# Altium schematic symbol library REX 9628 Extern Kernel 8.SCHLIB: 12 symbols
Pins are listed as number, name and electrical type; pins without a type are passive.

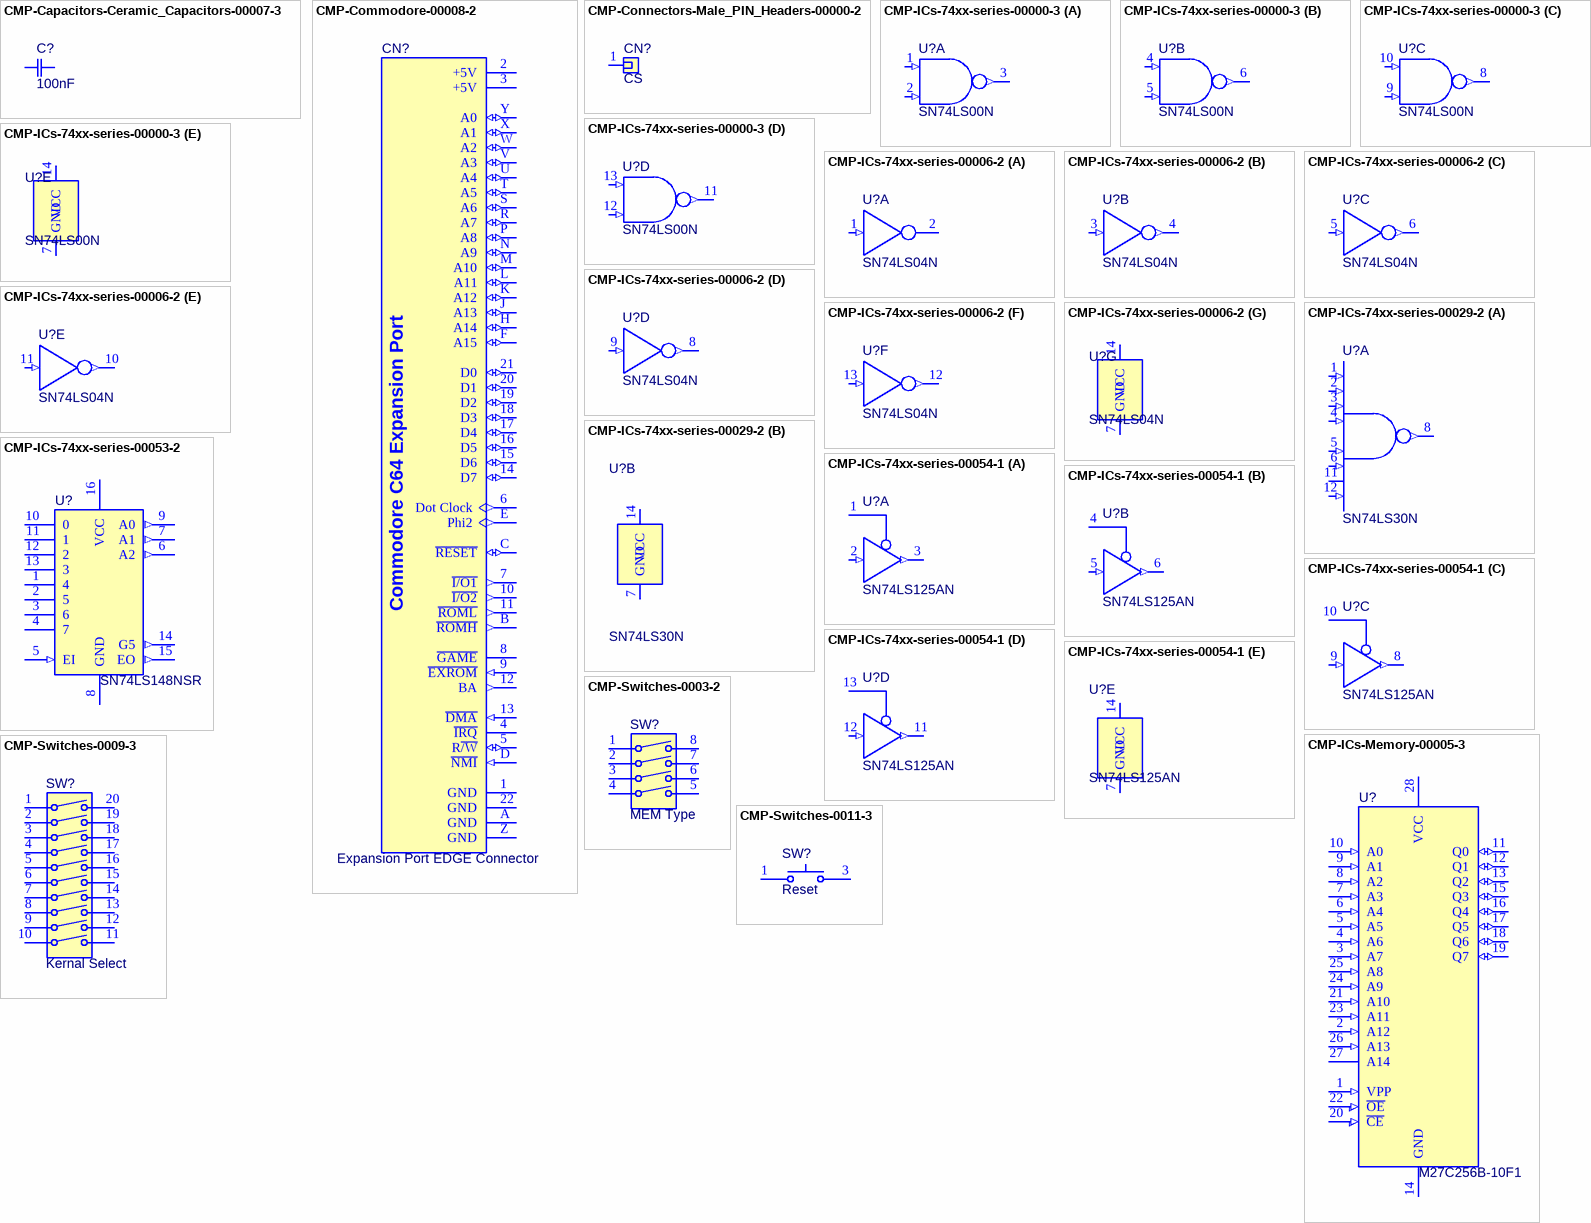
[diagram p0: symbols CMP-Capacitors-Ceramic_Capacitors-00007-3 to CMP-Switches-0011-3]

## CMP-Capacitors-Ceramic_Capacitors-00007-3
designator C?, comment 100nF
Ceramic Disc Capacitors 100nF -20%~+80% 50V Through Hole,P=2.54mm RoHS; ComponentLink1URL: https://lcsc.com/product-detail/Others_Dersonic-CC1H104ZA1PD3F5O3000_C353909.html; Component Type: Ceramic Capacitors
footprint CAP Disc 100nF P2.54mm D5.5mm T3mm
pins: 1, 2

## CMP-Commodore-00008-2
designator CN?, comment Expansion Port EDGE Connector
Expansion Port EDGE Connector for Interface Cards; Component Type: Commodore
footprint C64 Expansion Port EDGE Connector
pins: 1 GND, 2 +5V (power), 3 +5V (power), 4 ~{IRQ}, 5 R~{/W} (io), 6 Dot Clock (out), 7 ~{I/O1} (out), 8 ~{GAME}, 9 ~{EXROM} (in), 10 ~{I/O2} (out), 11 ~{ROML} (out), 12 BA (out), 13 ~{DMA} (in), 14 D7 (io), 15 D6 (io), 16 D5 (io), 17 D4 (io), 18 D3 (io), 19 D2 (io), 20 D1 (io), 21 D0 (io), 22 GND, A GND, B ~{ROMH} (out), C ~{RESET} (io), D ~{NMI} (in), E Phi2 (out), F A15 (io), H A14 (io), J A13 (io), K A12 (io), L A11 (io), M A10 (io), N A9 (io), P A8 (io), R A7 (io), S A6 (io), T A5 (io), U A4 (io), V A3 (io), W A2 (io), X A1 (io), Y A0 (io), Z GND (power)
text: Commodore C64 Expansion Port

## CMP-Connectors-Male_PIN_Headers-00000-2
designator CN?, comment CS
CONN HEADER .100 SNGL STR 1POS; Manufacturer: Sullins; Manufacturer Part Number: PRPC001SFAN-RC; Connector Type: Male Pin; Number of Positions: 1; Mount: Through Hole; Package Quantity: 1; Contact Mating Length: 0.318inch; Packaging: Bulk; Termination: Solder; Number of Rows: 1; Color: Black; Contact Plating: Gold; Component Type: Male PIN Headers
footprint Pin Header 01x01 2.54mm Horizontal Male
pins: 1

## CMP-ICs-74xx-series-00000-3
designator U?, comment SN74LS00N
IC, 74LS, 74LS00, DIP14, 5.25V; Manufacturer: Texas Instruments; Number of Gates: 4; High Level Output Current: -400uA; Number of Input Lines: 2; Number of Output Lines: 1; Low Level Output Current: 8mA; Schmitt Trigger Input: No; Min Supply Voltage: 4.75V; Turn-On Delay Time: 15ns; Output Current: 16mA; Logic Function: NAND; Operating Supply Voltage: 5V; Quiescent Current: 2.4mA; Max Operating Temperature: 70°C; Number of Bits: 4; Packaging: Rail/Tube; Case/Package: PDIP; Lead Free: Lead Free; Length: 19.3mm; Radiation Hardening: No; Package Quantity: 25; Width: 6.35mm; Number of Elements: 4; Mount: Through Hole; Number of Circuits: 4; Min Operating Temperature: 0°C; Contact Plating: Gold; Number of Outputs: 1; Height: 4.57mm; Number of Inputs: 2; Number of Pins: 14; Propagation Delay: 15ns; REACH SVHC: No SVHC; Max Supply Voltage: 5.25V; Weight: 0.032734oz; Manufacturer Part Number: SN74LS00N; Component Type: 74xx-series
footprint SN74LS00N with Socket
footprint SN74LS00N
part A pins: 1 1A (in), 2 1B (in), 3 1Y (out)
part B pins: 4 2A (in), 5 2B (in), 6 2Y (out)
part C pins: 8 3Y (out), 9 3B (in), 10 3A (in)
part D pins: 11 4Y (out), 12 4B (in), 13 4A (in)
part E pins: 7 GND, 14 VCC (power)

## CMP-ICs-74xx-series-00006-2
designator U?, comment SN74LS04N
IC HEX INVERTER 14-DIP; Manufacturer: Texas Instruments; Low Level Output Current: 8mA; Number of Output Lines: 6; Propagation Delay: 15ns; High Level Output Current: -400uA; Operating Supply Voltage: 5V; Min Supply Voltage: 4.75V; Logic Function: Buffer,Inverter; Turn-On Delay Time: 22ns; Nominal Supply Current: 100uA; Number of Inputs: 1; Max Supply Voltage: 5.25V; Schmitt Trigger Input: No; Contact Plating: Gold; Packaging: Rail/Tube; Case/Package: PDIP; Lead Free: Lead Free; Weight: 0.032734oz; Width: 6.35mm; Number of Pins: 14; Output Current: 8mA; Number of Gates: 6; Length: 19.3mm; REACH SVHC: No SVHC; Max Output Current: 8mA; Number of Circuits: 6; Min Operating Temperature: 0°C; Number of Bits: 6; Mount: Through Hole; Height: 4.57mm; Package Quantity: 25; Number of Elements: 6; Max Operating Temperature: 70°C; Radiation Hardening: No; Termination: Through Hole; Manufacturer Part Number: SN74LS04N; Component Type: 74xx-series
footprint SN74LS04N with Socket
footprint SN74LS04N
part A pins: 1 1A (in), 2 1Y
part B pins: 3 2A (in), 4 2Y (out)
part C pins: 5 3A (in), 6 3Y (out)
part D pins: 8 4Y (out), 9 4A (in)
part E pins: 10 5Y (out), 11 5A (in)
part F pins: 12 6Y (out), 13 6A (in)
part G pins: 7 GND, 14 VCC (power)

## CMP-ICs-74xx-series-00029-2
designator U?, comment SN74LS30N
IC GATE NAND 1CH 8-INP 14DIP; Manufacturer: Texas Instruments; High Level Output Current: -16mA; Low Level Output Current: 400uA; Propagation Delay: 20ns; Number of Elements: 1; Turn-On Delay Time: 22ns; Nominal Supply Current: 100uA; Number of Input Lines: 8; Output Current: 8mA; Max Supply Voltage: 5.25V; Operating Supply Voltage: 5V; Min Supply Voltage: 4.75V; Mount: Through Hole; Weight: 0.032734oz; Case/Package: PDIP; Packaging: Rail/Tube; Contact Plating: Gold; Radiation Hardening: No; Max Operating Temperature: 70°C; Number of Circuits: 1; Number of Gates: 1; Number of Outputs: 1; Logic Function: NAND; Number of Bits: 1; REACH SVHC: No SVHC; Termination: Through Hole; Min Operating Temperature: 0°C; Number of Inputs: 8; Lead Free: Lead Free; Number of Pins: 14; Package Quantity: 25; Max Output Current: 8mA; Number of Output Lines: 1; Manufacturer Part Number: SN74LS30N; Component Type: 74xx-series
footprint SN74LS30N with Socket
footprint SN74LS30N
part A pins: 1 A (in), 2 B (in), 3 C (in), 4 D (in), 5 E (in), 6 F (in), 8 1Y (out), 9 N/C hidden, 10 N/C hidden, 11 F, 12 H (in), 13 N/C hidden
part B pins: 7 GND, 14 VCC (power)

## CMP-ICs-74xx-series-00053-2
designator U?, comment SN74LS148NSR
IC PRIORITY ENCODER 8-3L 16SO; Manufacturer: Texas Instruments; Propagation Delay: 13ns; Number of Channels: 1; Number of Bits: 8; Supply Type: Single; Operating Supply Voltage: 5V; Logic Function: Multiplexer; Number of Outputs: 3; Turn-On Delay Time: 55ns; Min Supply Voltage: 4.75V; Max Supply Voltage: 5.25V; Bandwidth: 35MHz; Max Operating Temperature: 70°C; Weight: 0.007079oz; Mount: Surface Mount; Independent Circuits: 1; Radiation Hardening: No; Lead Free: Lead Free; Packaging: Tape and Reel; Number of Pins: 16; Min Operating Temperature: 0°C; Package Quantity: 2000; Case/Package: SOP; Number of Input Lines: 8; Number of Inputs: 8; Number of Output Lines: 3; Manufacturer Part Number: SN74LS148NSR; Component Type: 74xx-series
footprint SN74LS148N with Socket
footprint SN74LS148N
pins: 1 4, 2 5, 3 6, 4 7, 5 EI (in), 6 A2 (out), 7 A1 (out), 8 GND, 9 A0 (out), 10 0, 11 1, 12 2, 13 3, 14 G5 (out), 15 EO (out), 16 VCC (power)

## CMP-ICs-74xx-series-00054-1
designator U?, comment SN74LS125AN
IC BUS BUFF TRI-ST QD 14DIP; Manufacturer: Texas Instruments; Quiescent Current: 11mA; Operating Supply Voltage: 5V; Schmitt Trigger Input: No; Propagation Delay: 18ns; Number of Elements: 4; Output Current: 24mA; Nominal Supply Current: 32mA; Max Output Current: 16mA; High Level Output Current: -2.6mA; Polarity: Non-Inverting; Max Supply Voltage: 5.25V; Logic Function: Buffer,Inverting; Number of Bits per Element: 1; Min Supply Voltage: 4.75V; Min Operating Temperature: 0°C; REACH SVHC: No SVHC; Contact Plating: Gold; Number of Output Lines: 4; Lead Free: Lead Free; Mount: Through Hole; Number of Input Lines: 4; Packaging: Rail/Tube; Number of Bits: 4; Number of Circuits: 4; Height: 4.57mm; Case/Package: PDIP; Number of Channels: 4; Turn-On Delay Time: 18ns; Termination: Through Hole; Low Level Output Current: 24mA; Max Operating Temperature: 70°C; Number of Pins: 14; Width: 6.35mm; Package Quantity: 25; Number of Outputs: 4; Length: 19.3mm; Number of Inputs: 4; Manufacturer Part Number: SN74LS125AN; Component Type: 74xx-series
footprint SN74LS125AN with Socket
footprint SN74LS125AN
part A pins: 1 ~{1G}, 2 1A (in), 3 1Y (out)
part B pins: 4 ~{2G}, 5 2A (in), 6 2Y (out)
part C pins: 8 3Y (out), 9 3A (in), 10 ~{3G}
part D pins: 11 4Y (out), 12 4A (in), 13 ~{4G}
part E pins: 7 GND, 14 VCC (power)

## CMP-ICs-Memory-00005-3
designator U?, comment M27C256B-10F1
IC EPROM 256K PARALLEL 28CDIP; Manufacturer: STMicroelectronics; Nominal Supply Current: 50mA; Min Supply Voltage: 4.5V; Memory Type: EPROMs,EPROM; Max Supply Voltage: 5.5V; Density: 256Kb; Operating Supply Voltage: 5V; Frequency: 100GHz; Access Time: 100ns; Width: 13.36mm; Length: 37.34mm; Min Operating Temperature: 0°C; Lead Free: Lead Free; Package Quantity: 13; Max Operating Temperature: 70°C; Mount: Through Hole; Interface: Parallel; Number of Pins: 28; Height: 4.5mm; Packaging: Rail/Tube; Memory Size: 256Kb; Case/Package: DIP; Radiation Hardening: No; REACH SVHC: No SVHC; Manufacturer Part Number: M27C256B-10F1; Component Type: Memorys
footprint DIP-28 W15.24mm EPROM with Socket
footprint DIP-28 W15.24mm EPROM
pins: 1 VPP (in), 2 A12 (in), 3 A7 (in), 4 A6 (in), 5 A5 (in), 6 A4 (in), 7 A3 (in), 8 A2 (in), 9 A1 (in), 10 A0 (in), 11 Q0 (io), 12 Q1 (io), 13 Q2 (io), 14 GND, 15 Q3 (io), 16 Q4 (io), 17 Q5 (io), 18 Q6 (io), 19 Q7 (io), 20 ~{CE} (in), 21 A10 (in), 22 ~{OE} (in), 23 A11 (in), 24 A9 (in), 25 A8 (in), 26 A13 (in), 27 A14, 28 VCC (power)

## CMP-Switches-0003-2
designator SW?, comment MEM Type
SWITCH SLIDE DIP SPST 25MA 24V; Manufacturer: Wurth Electronics; Manufacturer Part Number: 418117270904; Mechanical Life: 5000Cycles; Electrical Life: 2000Cycles; Pitch: 0.1inch; Body Material: Nylon,Polyamide; Number of Positions: 4; Actuator Type: Slide (Standard); Washable: No; Lead Free: Lead Free; Packaging: Rail/Tube; Package Quantity: 47; Current Rating: 25mA; Min Operating Temperature: -40°C; Length: 0.439inch; Contact Plating: Gold; Mount: Through Hole; Termination: PC Pin; Max Operating Temperature: 85°C; Throw Configuration: SPST; Voltage Rating (DC): 24V; Component Type: Switches
footprint DIP Switch x04
pins: 1, 2, 3, 4, 5, 6, 7, 8

## CMP-Switches-0009-3
designator SW?, comment Kernal Select
SWITCH SLIDE DIP SPST 25MA 24V; Manufacturer: Wurth Electronics; Manufacturer Part Number: 418117270910; Number of Positions: 10; Electrical Life: 2000Cycles; Actuator Type: Slide (Standard); Body Material: Nylon,Polyamide; Pitch: 0.1inch; Washable: No; Mechanical Life: 5000Cycles; Packaging: Rail/Tube; Max Operating Temperature: 85°C; Contact Plating: Gold; Mount: Through Hole; Termination: PC Pin; Package Quantity: 20; Current Rating: 25mA; Voltage Rating (DC): 24V; Length: 1.039inch; Min Operating Temperature: -40°C; Throw Configuration: SPST; Component Type: Switches
footprint DIP Switch x10
pins: 1, 2, 3, 4, 5, 6, 7, 8, 9, 10, 11, 12, 13, 14, 15, 16, 17, 18, 19, 20

## CMP-Switches-0011-3
designator SW?, comment Reset
Black Button Tactile Switch, NO 50 mA 5mm Through Hole; Manufacturer: Wurth Electronics; Manufacturer Part Number: 430476085716; Contact Current Rating: 50mA; Actuator Material: Polymer,Liquid Crystal Polymer; Throw Configuration: SPST; Operating Force: 160gf; Actuator Type: Standard; Switch Function: Off-Mom; Illumination Type: Non-Illuminated,Illuminated; Switch Travel: 0.3mm; Mechanical Life: 500000Cycles; Min Operating Temperature: -40°C; Max Operating Temperature: 85°C; Mount: Through Hole; Termination: PC Pin; Actuator Length: 5mm; Contact Material: Stainless Steel,Silver; Packaging: Bulk; REACH SVHC: No SVHC; Component Type: Switches
footprint Push Button 12x12mm H8.50mm THT
pins: 1, 2, 3, 4